# EAGLE library part LS7083 (library ic)
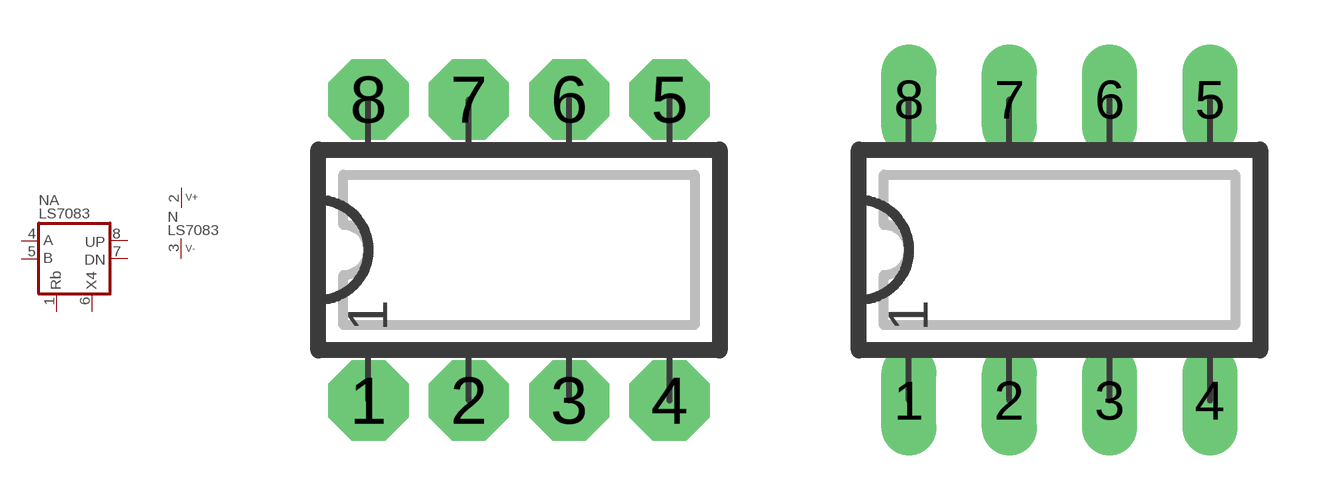
[diagram p9: symbol with the pads of DIP08N; footprints DIP08N, DIP08L]

Designator prefix N; gates A=LS7083 P=V+-

## LS7083N  [DIP08N]
1  A:RB
2  P:V+  pwr
3  P:V-  pwr
4  A:A  in
5  A:B  in
6  A:X4  in
7  A:DN  out
8  A:UP  out

## LS7083  [DIP08L]
Pads as for DIP08N

## LS7083L  [DIP08L]
Pads as for DIP08N

## LS7083R  [DIP08R]
Pads as for DIP08N

## Footprint DIP08N (pad centres in mm)
DIP-8 Standard IC package, 8 pins
drill 0.813 pad 2.032 octagon: 1 -3.81,-3.81; 2 -1.27,-3.81; 3 1.27,-3.81; 4 3.81,-3.81; 5 3.81,3.81; 6 1.27,3.81; 7 -1.27,3.81; 8 -3.81,3.81

## Footprint DIP08L (pad centres in mm)
DIP-8, long pads Standard IC package, 8 pins
drill 0.813 pad 1.397 long: 1 -3.81,-3.81; 2 -1.27,-3.81; 3 1.27,-3.81; 4 3.81,-3.81; 5 3.81,3.81; 6 1.27,3.81; 7 -1.27,3.81; 8 -3.81,3.81

## Footprint DIP08R (pad centres in mm)
DIP-8, reduced pads Standard IC package, 8 pins
drill 0.813 pad 1.397 square: 1 -3.81,-3.81; 2 -1.27,-3.81; 3 1.27,-3.81; 4 3.81,-3.81; 5 3.81,3.81; 6 1.27,3.81; 7 -1.27,3.81; 8 -3.81,3.81